# Altium footprint library IDC_100_2x25_RA.PcbLib: 1 footprints
Each footprint in its own frame and in the unit in brackets; x right, y up, seen from the top. Pads: shape width x height; smd on the part's side, far side on the other; paste and mask are expansions set on the pad; w line width, h text height; cw(c..) or ccw(c..) is an arc to the next point about the centre after c.
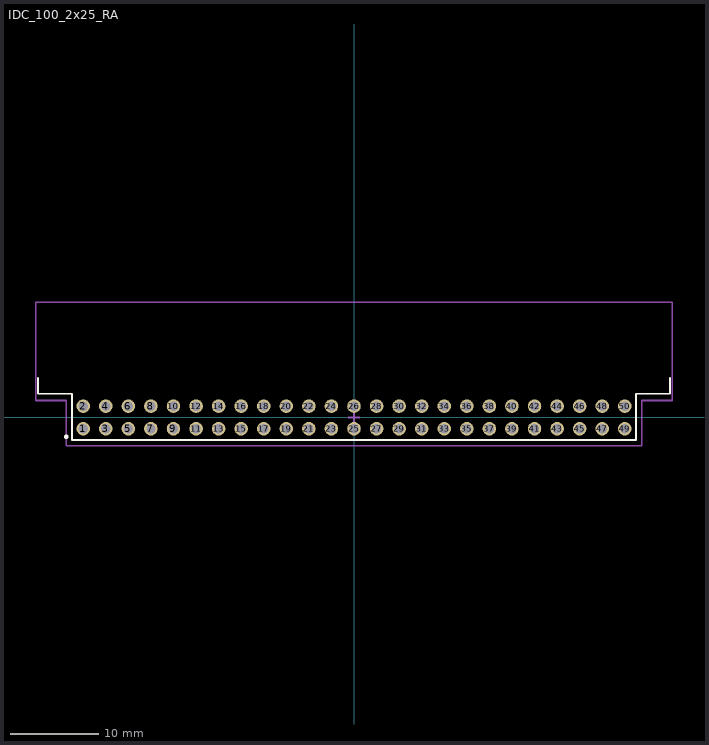
[diagram p0: the footprint, top view; thin cyan lines are the x and y axes]

## IDC_100_2x25_RA [mil]
pads (50):
  round 60 hole 41: 1(-1200,-50) 2(-1200,50) 3(-1100,-50) 4(-1100,50) 5(-1000,-50) 6(-1000,50) 7(-900,-50) 8(-900,50) 9(-800,-50) 10(-800,50) 11(-700,-50) 12(-700,50) 13(-600,-50) 14(-600,50) 15(-500,-50) 16(-500,50) 17(-400,-50) 18(-400,50) 19(-300,-50) 20(-300,50) 21(-200,-50) 22(-200,50) 23(-100,-50) 24(-100,50) 25(0,-50) 26(0,50) 27(100,-50) 28(100,50) 29(200,-50) 30(200,50) 31(300,-50) 32(300,50) 33(400,-50) 34(400,50) 35(500,-50) 36(500,50) 37(600,-50) 38(600,50) 39(700,-50) 40(700,50) 41(800,-50) 42(800,50) 43(900,-50) 44(900,50) 45(1000,-50) 46(1000,50) 47(1100,-50) 48(1100,50) 49(1200,-50) 50(1200,50)
Top Overlay:
  circle w10: c-1275,-85 r5
  lines w7.87: -1400,175 -1400,105 -1250,105 -1250,-100 1250,-100 1250,105 1400,105 1400,175
Mechanical 15:
  lines w7.87: -25,0 25,0 ; 0,-25 0,25 ; -1410,75 -1275,75 -1275,-125 1275,-125 1275,75 1410,75 1410,510 -1410,510 -1410,75
3D body "75867108lf.stp": height 366.19, standoff -119.66, extent -1391.93,-63 1391.93,487